# Altium footprint library PcbLib1.PcbLib: 8 footprints
Each footprint in its own frame and in the unit in brackets; x right, y up, seen from the top. Pads: shape width x height; smd on the part's side, far side on the other; paste and mask are expansions set on the pad; w line width, h text height; cw(c..) or ccw(c..) is an arc to the next point about the centre after c.
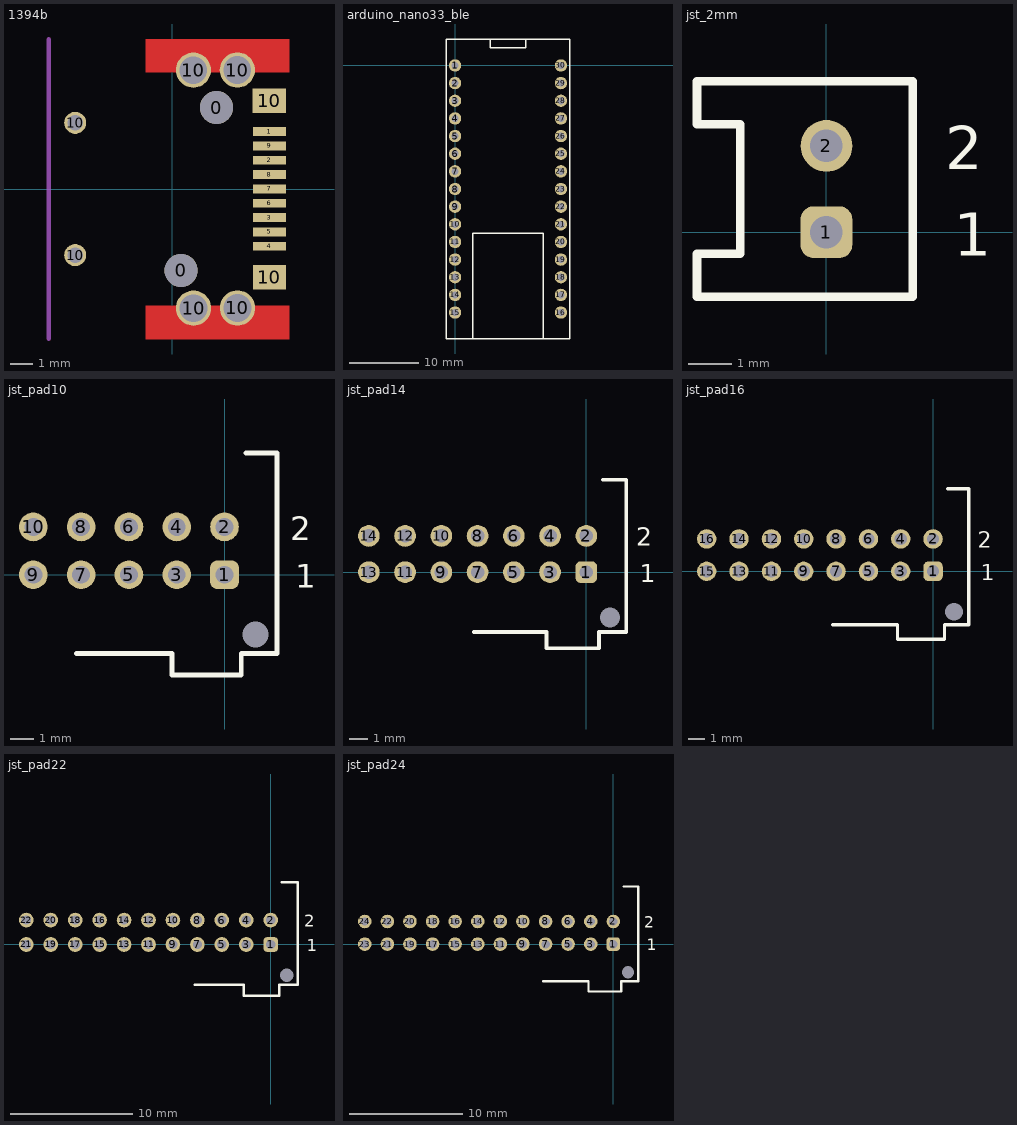
[diagram p0: the footprints below, top view; thin cyan lines are the x and y axes]

## 1394b [mm]
pads (19):
  round 1.5 hole 1.5 unplated: 0(0.401,-3.691) 0(2.007,3.699)
  rect 1.5x0.4 smd mask+0: 1(4.401,2.605) 2(4.401,1.305) 3(4.401,-1.295) 4(4.401,-2.595) 5(4.401,-1.945) 6(4.401,-0.645) 7(4.401,0.005) 8(4.401,0.655) 9(4.401,1.955)
  round 1 hole 0.7 mask+0: 10(-4.403,-2.995) 10(-4.403,3.003)
  round 1.6 hole 1.25: 10(0.959,5.393) 10(0.964,-5.4) 10(2.953,5.4) 10(2.958,-5.393)
  rect 1.5x1.1 smd mask+0: 10(4.398,4.005) 10(4.403,-4.001)
Top Layer:
  region: -1.2,-5.3 5.3,-5.3 5.3,-6.8 -1.2,-6.8
  region: -1.205,5.307 5.295,5.307 5.295,6.807 -1.205,6.807
Mechanical 1:
  lines w0.2: -5.597,-6.789 -5.597,6.792
3D body: height 8, standoff 0, extent -6.094,-6.789 5.005,6.798

## arduino_nano33_ble [mil]
pads (30):
  round 70 hole 40: 1(0,0) 2(0,-100) 3(0,-200) 4(0,-300) 5(0,-400) 6(0,-500) 7(0,-600) 8(0,-700) 9(0,-800) 10(0,-900) 11(0,-1000) 12(0,-1100) 13(0,-1200) 14(0,-1300) 15(0,-1400) 16(600,-1400) 17(600,-1300) 18(600,-1200) 19(600,-1100) 20(600,-1000) 21(600,-900) 22(600,-800) 23(600,-700) 24(600,-600) 25(600,-500) 26(600,-400) 27(600,-300) 28(600,-200) 29(600,-100) 30(600,0)
Top Overlay:
  lines w7.87: 100,-1550 100,-950 500,-950 500,-1550 ; 400,150 400,100 200,100 200,150 -50,150 ; -50,150 650,150 650,-1550 -50,-1550 -50,150

## jst_2mm [mm]
pads (2):
  rrect50% 1.2x1.2 hole 0.75: 1(0,0)
  round 1.2 hole 0.75: 2(0,2)
Top Overlay:
  lines w0.2: -3,-1.5 -3,-0.5 -2,-0.5 -2,2.5 -3,2.5 -3,3.5 -2,3.5 2,3.5 2,-1.5 -3,-1.5
  text "2" at 2.754,1.454 h1
  text "1" at 2.954,-0.546 h1

## jst_pad10 [mm]
pads (11):
  round 0 hole 1.1: 0(1.3,-2.5)
  rrect50% 1.2x1.2 hole 0.75: 1(0,0)
  round 1.2 hole 0.75: 2(0,2) 3(-2,0) 4(-2,2) 5(-4,0) 6(-4,2) 7(-6,0) 8(-6,2) 9(-8,0) 10(-8,2)
Top Overlay:
  lines w0.2: -6.2,-3.3 -2.2,-3.3 -2.2,-4.2 0.7,-4.2 0.7,-3.3 2.2,-3.3 2.2,5.1 0.9,5.1
  text "1" at 2.954,-0.546 h1
  text "2" at 2.754,1.454 h1

## jst_pad14 [mm]
pads (15):
  round 0 hole 1.1: 0(1.3,-2.5)
  rrect50% 1.2x1.2 hole 0.75: 1(0,0)
  round 1.2 hole 0.75: 2(0,2) 3(-2,0) 4(-2,2) 5(-4,0) 6(-4,2) 7(-6,0) 8(-6,2) 9(-8,0) 10(-8,2) 11(-10,0) 12(-10,2) 13(-12,0) 14(-12,2)
Top Overlay:
  lines w0.2: -6.2,-3.3 -2.2,-3.3 -2.2,-4.2 0.7,-4.2 0.7,-3.3 2.2,-3.3 2.2,5.1 0.9,5.1
  text "1" at 2.954,-0.546 h1
  text "2" at 2.754,1.454 h1
3D body "B14B-PADSS-1F.STEP": height 10.3, standoff -3.3, extent -14,-4.4 2,5.1

## jst_pad16 [mm]
pads (17):
  round 0 hole 1.1: 0(1.3,-2.5)
  rrect50% 1.2x1.2 hole 0.75: 1(0,0)
  round 1.2 hole 0.75: 2(0,2) 3(-2,0) 4(-2,2) 5(-4,0) 6(-4,2) 7(-6,0) 8(-6,2) 9(-8,0) 10(-8,2) 11(-10,0) 12(-10,2) 13(-12,0) 14(-12,2) 15(-14,0) 16(-14,2)
Top Overlay:
  lines w0.2: -6.2,-3.3 -2.2,-3.3 -2.2,-4.2 0.7,-4.2 0.7,-3.3 2.2,-3.3 2.2,5.1 0.9,5.1
  text "2" at 2.754,1.454 h1
  text "1" at 2.954,-0.546 h1
3D body "B16B-PADSS-1F.STEP": height 10.3, standoff -3.3, extent -15.975,-4.4 2.025,5.1

## jst_pad22 [mm]
pads (23):
  round 0 hole 1.1: 0(1.3,-2.5)
  rrect50% 1.2x1.2 hole 0.75: 1(0,0)
  round 1.2 hole 0.75: 2(0,2) 3(-2,0) 4(-2,2) 5(-4,0) 6(-4,2) 7(-6,0) 8(-6,2) 9(-8,0) 10(-8,2) 11(-10,0) 12(-10,2) 13(-12,0) 14(-12,2) 15(-14,0) 16(-14,2) 17(-16,0) 18(-16,2) 19(-18,0) 20(-18,2) 21(-20,0) 22(-20,2)
Top Overlay:
  lines w0.2: -6.2,-3.3 -2.2,-3.3 -2.2,-4.2 0.7,-4.2 0.7,-3.3 2.2,-3.3 2.2,5.1 0.9,5.1
  text "2" at 2.754,1.454 h1
  text "1" at 2.954,-0.546 h1
3D body "B22B-PADSS-1F.STEP": height 10.3, standoff -3.3, extent -22,-4.4 2,5.1

## jst_pad24 [mm]
pads (25):
  round 0 hole 1.1: 0(1.3,-2.5)
  rrect50% 1.2x1.2 hole 0.75: 1(0,0)
  round 1.2 hole 0.75: 2(0,2) 3(-2,0) 4(-2,2) 5(-4,0) 6(-4,2) 7(-6,0) 8(-6,2) 9(-8,0) 10(-8,2) 11(-10,0) 12(-10,2) 13(-12,0) 14(-12,2) 15(-14,0) 16(-14,2) 17(-16,0) 18(-16,2) 19(-18,0) 20(-18,2) 21(-20,0) 22(-20,2) 23(-22,0) 24(-22,2)
Top Overlay:
  lines w0.2: -6.2,-3.3 -2.2,-3.3 -2.2,-4.2 0.7,-4.2 0.7,-3.3 2.2,-3.3 2.2,5.1 0.9,5.1
  text "2" at 2.754,1.454 h1
  text "1" at 2.954,-0.546 h1